# Altium footprint library pinhead.PCBLIB: 100 footprints (part 1 of 7)
Each footprint in its own frame and in the unit in brackets; x right, y up, seen from the top. Pads: shape width x height; smd on the part's side, far side on the other; paste and mask are expansions set on the pad; w line width, h text height; cw(c..) or ccw(c..) is an arc to the next point about the centre after c.
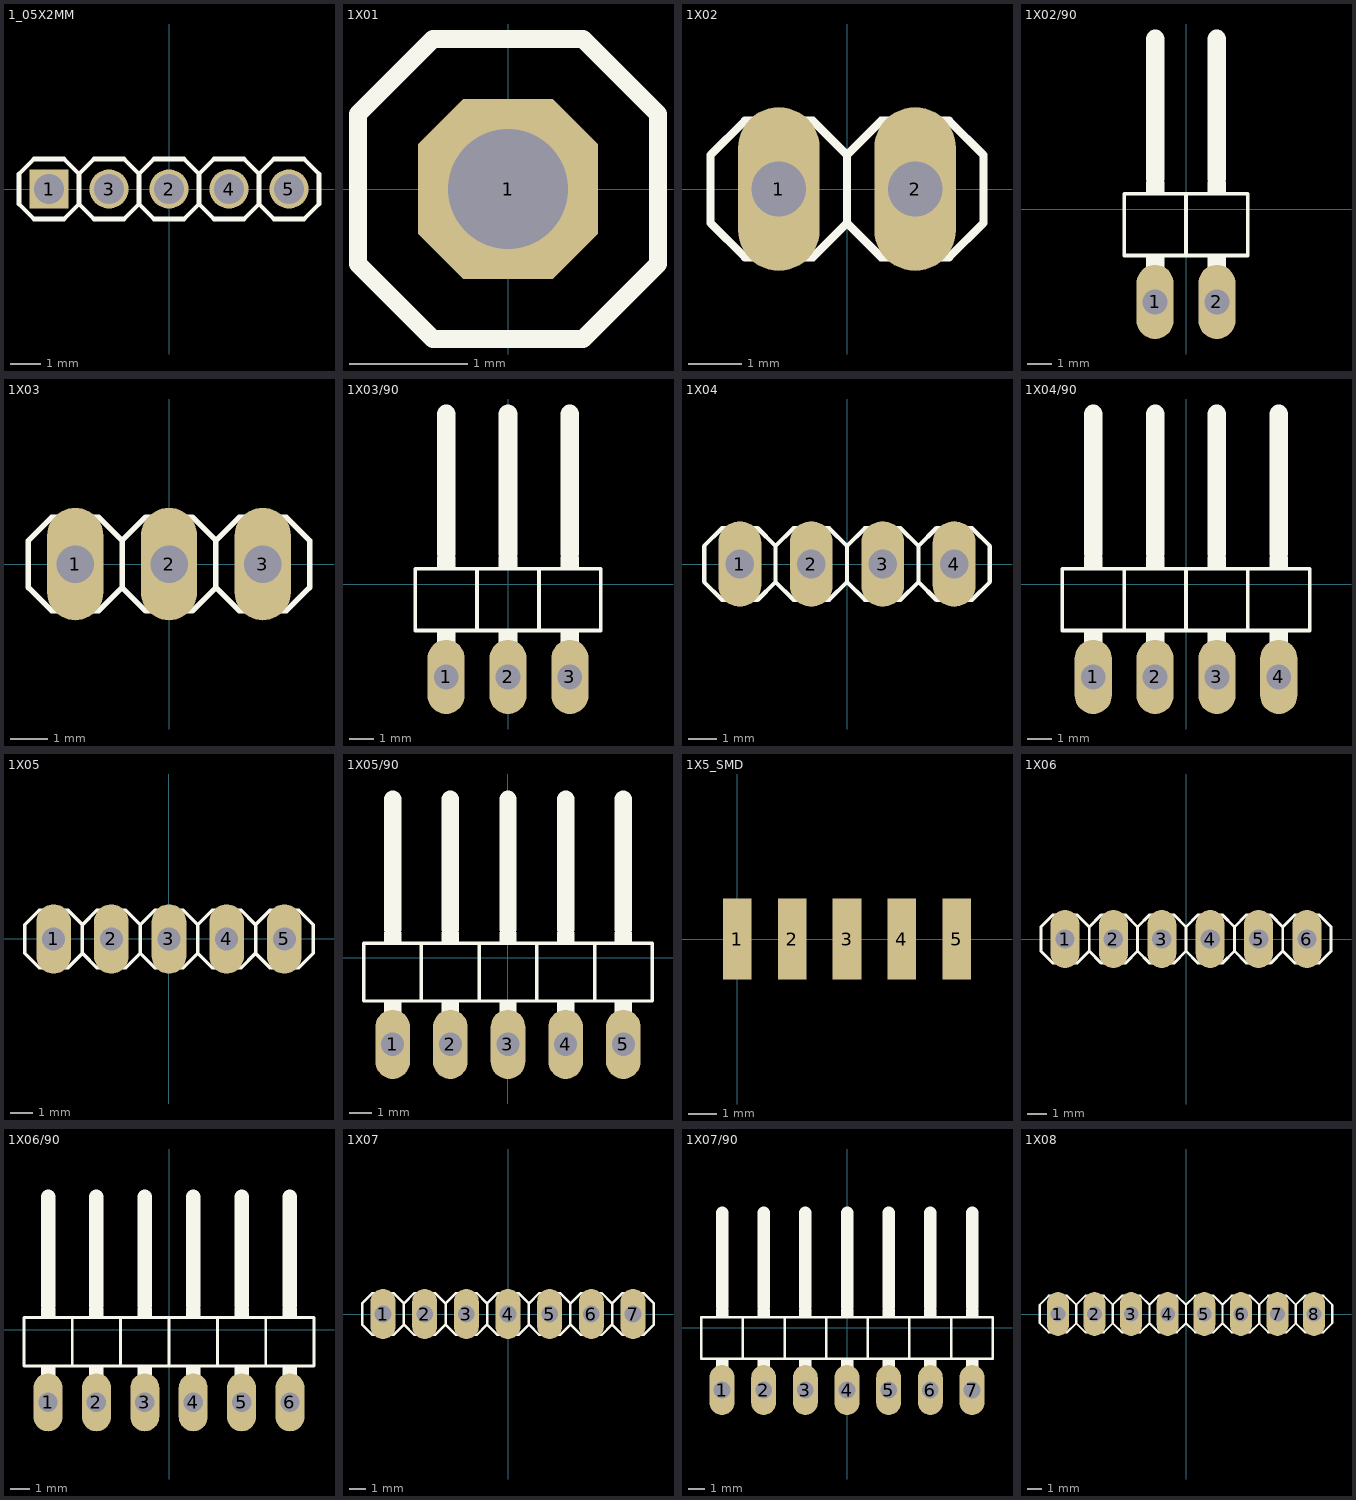
[diagram p0: the footprints below, top view; thin cyan lines are the x and y axes]

## 1_05X2MM [mil]
pads (5):
  rect 51.18x51.18 hole 40: 1(-157.48,0)
  round 51.18 hole 40: 2(0,0) 3(-78.74,0) 4(78.74,0) 5(157.48,0)
Top Overlay:
  lines w6: -118.11,-19.69 -137.8,-39.37 -177.17,-39.37 -196.85,-19.69 -196.85,19.69 -177.17,39.37 -137.8,39.37 -118.11,19.69 ; -118.11,-19.69 -98.43,-39.37 -59.06,-39.37 -39.37,-19.69 ; -118.11,-19.69 -118.11,19.69 ; -118.11,19.69 -98.43,39.37 -59.06,39.37 -39.37,19.69 ; -39.37,-19.69 -19.69,-39.37 19.69,-39.37 39.37,-19.69 ; -39.37,-19.69 -39.37,19.69 ; -39.37,19.69 -19.69,39.37 19.69,39.37 39.37,19.69 ; 39.37,-19.69 59.06,-39.37 98.43,-39.37 118.11,-19.69 ; 39.37,-19.69 39.37,19.69 ; 39.37,19.69 59.06,39.37 98.43,39.37 118.11,19.69 ; 118.11,-19.69 137.8,-39.37 177.17,-39.37 196.85,-19.69 196.85,19.69 177.17,39.37 137.8,39.37 118.11,19.69 ; 118.11,-19.69 118.11,19.69
Mechanical 16:
  rectangle: -167.48,-10 -147.48,10
  rectangle: -88.74,-10 -68.74,10
  rectangle: -10,-10 10,10
  rectangle: 68.74,-10 88.74,10
  rectangle: 147.48,-10 167.48,10

## 1X01 [mil]
pads (1):
  oct 60x60 hole 40: 1(0,0)
Top Overlay:
  lines w6: -50,-25 -25,-50 25,-50 50,-25 50,25 25,50 -25,50 -50,25 -50,-25
Mechanical 16:
  rectangle: -10,-10 10,10
3D body: height 336.22, standoff -118.11, extent -50,-49.01 50,49.02

## 1X02 [mil]
pads (2):
  oval 60x120 hole 40: 1(-50,0) 2(50,0)
Top Overlay:
  lines w6: 0,-25 25,-50 75,-50 100,-25 100,25 75,50 25,50 0,25 ; 0,-25 -25,-50 -75,-50 -100,-25 -100,25 -75,50 -25,50 0,25 ; 0,-25 0,25
Mechanical 16:
  rectangle: 40,-10 60,10
  rectangle: -60,-10 -40,10
3D body: height 336.22, standoff -118.11, extent -99.99,-49 100.01,49.02

## 1X02/90 [mil]
pads (2):
  oval 60x120 hole 40: 1(-50,-150) 2(50,-150)
Top Overlay:
  rectangle: 35,-115 65,-75
  rectangle: -65,-115 -35,-75
  rectangle: 35,25 65,45
  rectangle: -65,25 -35,45
  lines w6: 0,-75 100,-75 100,25 0,25 ; 0,-75 0,25 ; 0,-75 -100,-75 -100,25 0,25
  lines w30: -50,50 -50,275 ; 50,50 50,275

## 1X03 [mil]
pads (3):
  oval 60x120 hole 40: 1(-100,0) 2(0,0) 3(100,0)
Top Overlay:
  lines w6: -50,-25 -50,25 ; -50,-25 -75,-50 -125,-50 -150,-25 -150,25 -125,50 -75,50 -50,25 ; -50,-25 -25,-50 25,-50 50,-25 ; -50,25 -25,50 25,50 50,25 ; 50,-25 50,25 ; 50,-25 75,-50 125,-50 150,-25 150,25 125,50 75,50 50,25
Mechanical 16:
  rectangle: -10,-10 10,10
  rectangle: -110,-10 -90,10
  rectangle: 90,-10 110,10
3D body: height 336.22, standoff -118.11, extent -149.99,-49.01 50.01,49.02
3D body: height 336.22, standoff -118.11, extent 50,-49.01 150,49.02

## 1X03/90 [mil]
pads (3):
  oval 60x120 hole 40: 1(-100,-150) 2(0,-150) 3(100,-150)
Top Overlay:
  rectangle: -115,25 -85,45
  rectangle: -15,25 15,45
  rectangle: 85,25 115,45
  rectangle: -115,-115 -85,-75
  rectangle: -15,-115 15,-75
  rectangle: 85,-115 115,-75
  lines w6: -50,-75 -150,-75 -150,25 -50,25 ; -50,-75 -50,25 ; -50,-75 50,-75 ; -50,25 50,25 ; 50,-75 50,25 ; 50,-75 150,-75 150,25 50,25
  lines w30: -100,50 -100,275 ; 0,50 0,275 ; 100,50 100,275

## 1X04 [mil]
pads (4):
  oval 60x120 hole 40: 1(-150,0) 2(-50,0) 3(50,0) 4(150,0)
Top Overlay:
  lines w6: -100,-25 -75,-50 -25,-50 0,-25 ; -100,-25 -125,-50 -175,-50 -200,-25 -200,25 -175,50 -125,50 -100,25 ; -100,-25 -100,25 ; -100,25 -75,50 -25,50 0,25 ; 0,-25 0,25 ; 0,-25 25,-50 75,-50 100,-25 ; 0,25 25,50 75,50 100,25 ; 100,-25 125,-50 175,-50 200,-25 200,25 175,50 125,50 100,25 ; 100,-25 100,25
Mechanical 16:
  rectangle: 140,-10 160,10
  rectangle: -160,-10 -140,10
  rectangle: -60,-10 -40,10
  rectangle: 40,-10 60,10

## 1X04/90 [mil]
pads (4):
  oval 60x120 hole 40: 1(-150,-150) 2(-50,-150) 3(50,-150) 4(150,-150)
Top Overlay:
  rectangle: 135,-115 165,-75
  rectangle: 35,-115 65,-75
  rectangle: -65,-115 -35,-75
  rectangle: -165,-115 -135,-75
  rectangle: 135,25 165,45
  rectangle: 35,25 65,45
  rectangle: -65,25 -35,45
  rectangle: -165,25 -135,45
  lines w6: -100,-75 0,-75 ; -100,-75 -100,25 ; -100,-75 -200,-75 -200,25 -100,25 ; -100,25 0,25 ; 0,-75 100,-75 ; 0,-75 0,25 ; 0,25 100,25 ; 100,-75 200,-75 200,25 100,25 ; 100,-75 100,25
  lines w30: -150,50 -150,275 ; -50,50 -50,275 ; 50,50 50,275 ; 150,50 150,275
3D body: height 95.95, standoff -122.17, extent -200,-165 200,242.88

## 1X05 [mil]
pads (5):
  oval 60x120 hole 40: 1(-200,0) 2(-100,0) 3(0,0) 4(100,0) 5(200,0)
Top Overlay:
  lines w6: -150,-25 -125,-50 -75,-50 -50,-25 ; -150,-25 -175,-50 -225,-50 -250,-25 -250,25 -225,50 -175,50 -150,25 ; -150,-25 -150,25 ; -150,25 -125,50 -75,50 -50,25 ; -50,-25 -50,25 ; -50,-25 -25,-50 25,-50 50,-25 ; -50,25 -25,50 25,50 50,25 ; 50,-25 75,-50 125,-50 150,-25 ; 50,-25 50,25 ; 50,25 75,50 125,50 150,25 ; 150,-25 175,-50 225,-50 250,-25 250,25 225,50 175,50 150,25 ; 150,-25 150,25
Mechanical 16:
  rectangle: 190,-10 210,10
  rectangle: -210,-10 -190,10
  rectangle: -110,-10 -90,10
  rectangle: -10,-10 10,10
  rectangle: 90,-10 110,10
3D body: height 336.22, standoff -118.11, extent 150,-49.01 250,49.02
3D body: height 336.22, standoff -118.11, extent -49.99,-49.01 150.01,49.02
3D body: height 336.22, standoff -118.11, extent -249.99,-49.01 -49.99,49.02

## 1X05/90 [mil]
pads (5):
  oval 60x120 hole 40: 1(-200,-150) 2(-100,-150) 3(0,-150) 4(100,-150) 5(200,-150)
Top Overlay:
  rectangle: -215,25 -185,45
  rectangle: -115,25 -85,45
  rectangle: -15,25 15,45
  rectangle: 85,25 115,45
  rectangle: 185,25 215,45
  rectangle: -215,-115 -185,-75
  rectangle: -115,-115 -85,-75
  rectangle: -15,-115 15,-75
  rectangle: 85,-115 115,-75
  rectangle: 185,-115 215,-75
  lines w6: -150,-75 -250,-75 -250,25 -150,25 ; -150,-75 -150,25 ; -150,-75 -50,-75 ; -150,25 -50,25 ; -50,-75 -50,25 ; -50,-75 50,-75 ; -50,25 50,25 ; 50,-75 50,25 ; 50,-75 150,-75 ; 50,25 150,25 ; 150,-75 150,25 ; 150,-75 250,-75 250,25 150,25
  lines w30: -200,50 -200,275 ; -100,50 -100,275 ; 0,50 0,275 ; 100,50 100,275 ; 200,50 200,275

## 1X5_SMD [mm]
pads (5):
  rect 1x2.8 smd: 1(0,0) 2(1.905,0) 3(3.81,0) 4(5.715,0) 5(7.62,0)

## 1X06 [mil]
pads (6):
  oval 60x120 hole 40: 1(-250,0) 2(-150,0) 3(-50,0) 4(50,0) 5(150,0) 6(250,0)
Top Overlay:
  lines w6: -200,-25 -175,-50 -125,-50 -100,-25 ; -200,-25 -225,-50 -275,-50 -300,-25 -300,25 -275,50 -225,50 -200,25 ; -200,-25 -200,25 ; -200,25 -175,50 -125,50 -100,25 ; -100,-25 -100,25 ; -100,-25 -75,-50 -25,-50 0,-25 ; -100,25 -75,50 -25,50 0,25 ; 0,-25 25,-50 75,-50 100,-25 ; 0,-25 0,25 ; 0,25 25,50 75,50 100,25 ; 100,-25 125,-50 175,-50 200,-25 ; 100,-25 100,25 ; 100,25 125,50 175,50 200,25 ; 200,-25 225,-50 275,-50 300,-25 300,25 275,50 225,50 200,25 ; 200,-25 200,25
Mechanical 16:
  rectangle: 240,-10 260,10
  rectangle: -260,-10 -240,10
  rectangle: -160,-10 -140,10
  rectangle: -60,-10 -40,10
  rectangle: 40,-10 60,10
  rectangle: 140,-10 160,10
3D body: height 373.85, standoff -125.98, extent -300,-49.99 300,50.01

## 1X06/90 [mil]
pads (6):
  oval 60x120 hole 40: 1(-250,-150) 2(-150,-150) 3(-50,-150) 4(50,-150) 5(150,-150) 6(250,-150)
Top Overlay:
  rectangle: -265,25 -235,45
  rectangle: -165,25 -135,45
  rectangle: -65,25 -35,45
  rectangle: 35,25 65,45
  rectangle: 135,25 165,45
  rectangle: 235,25 265,45
  rectangle: -265,-115 -235,-75
  rectangle: -165,-115 -135,-75
  rectangle: -65,-115 -35,-75
  rectangle: 35,-115 65,-75
  rectangle: 135,-115 165,-75
  rectangle: 235,-115 265,-75
  lines w6: -200,-75 -300,-75 -300,25 -200,25 ; -200,-75 -200,25 ; -200,-75 -100,-75 ; -200,25 -100,25 ; -100,-75 -100,25 ; -100,-75 0,-75 ; -100,25 0,25 ; 0,-75 0,25 ; 0,-75 100,-75 ; 0,25 100,25 ; 100,-75 100,25 ; 100,-75 200,-75 ; 100,25 200,25 ; 200,-75 200,25 ; 200,-75 300,-75 300,25 200,25
  lines w30: -250,50 -250,275 ; -150,50 -150,275 ; -50,50 -50,275 ; 50,50 50,275 ; 150,50 150,275 ; 250,50 250,275

## 1X07 [mil]
pads (7):
  oval 60x120 hole 40: 1(-300,0) 2(-200,0) 3(-100,0) 4(0,0) 5(100,0) 6(200,0) 7(300,0)
Top Overlay:
  lines w6: -250,-25 -250,25 ; -250,-25 -275,-50 -325,-50 -350,-25 -350,25 -325,50 -275,50 -250,25 ; -250,-25 -225,-50 -175,-50 -150,-25 ; -250,25 -225,50 -175,50 -150,25 ; -150,-25 -125,-50 -75,-50 -50,-25 ; -150,-25 -150,25 ; -150,25 -125,50 -75,50 -50,25 ; -50,-25 -50,25 ; -50,-25 -25,-50 25,-50 50,-25 ; -50,25 -25,50 25,50 50,25 ; 50,-25 50,25 ; 50,-25 75,-50 125,-50 150,-25 ; 50,25 75,50 125,50 150,25 ; 150,-25 175,-50 225,-50 250,-25 ; 150,-25 150,25 ; 150,25 175,50 225,50 250,25 ; 250,-25 250,25 ; 250,-25 275,-50 325,-50 350,-25 350,25 325,50 275,50 250,25
Mechanical 16:
  rectangle: 190,-10 210,10
  rectangle: 90,-10 110,10
  rectangle: -10,-10 10,10
  rectangle: -110,-10 -90,10
  rectangle: -210,-10 -190,10
  rectangle: -310,-10 -290,10
  rectangle: 290,-10 310,10

## 1X07/90 [mil]
pads (7):
  oval 60x120 hole 40: 1(-300,-150) 2(-200,-150) 3(-100,-150) 4(0,-150) 5(100,-150) 6(200,-150) 7(300,-150)
Top Overlay:
  rectangle: -315,25 -285,45
  rectangle: -215,25 -185,45
  rectangle: -115,25 -85,45
  rectangle: -15,25 15,45
  rectangle: 85,25 115,45
  rectangle: 185,25 215,45
  rectangle: 285,25 315,45
  rectangle: -315,-115 -285,-75
  rectangle: -215,-115 -185,-75
  rectangle: -115,-115 -85,-75
  rectangle: -15,-115 15,-75
  rectangle: 85,-115 115,-75
  rectangle: 185,-115 215,-75
  rectangle: 285,-115 315,-75
  lines w6: -250,-75 -350,-75 -350,25 -250,25 ; -250,-75 -250,25 ; -250,-75 -150,-75 ; -250,25 -150,25 ; -150,-75 -150,25 ; -150,-75 -50,-75 ; -150,25 -50,25 ; -50,-75 -50,25 ; -50,-75 50,-75 ; -50,25 50,25 ; 50,-75 50,25 ; 50,-75 150,-75 ; 50,25 150,25 ; 150,-75 150,25 ; 150,-75 250,-75 ; 150,25 250,25 ; 250,-75 250,25 ; 250,-75 350,-75 350,25 250,25
  lines w30: -300,50 -300,275 ; -200,50 -200,275 ; -100,50 -100,275 ; 0,50 0,275 ; 100,50 100,275 ; 200,50 200,275 ; 300,50 300,275

## 1X08 [mil]
pads (8):
  oval 60x120 hole 40: 1(-350,0) 2(-250,0) 3(-150,0) 4(-50,0) 5(50,0) 6(150,0) 7(250,0) 8(350,0)
Top Overlay:
  lines w6: -300,-25 -300,25 ; -300,-25 -325,-50 -375,-50 -400,-25 -400,25 -375,50 -325,50 -300,25 ; -300,-25 -275,-50 -225,-50 -200,-25 ; -300,25 -275,50 -225,50 -200,25 ; -200,-25 -175,-50 -125,-50 -100,-25 ; -200,-25 -200,25 ; -200,25 -175,50 -125,50 -100,25 ; -100,-25 -100,25 ; -100,-25 -75,-50 -25,-50 0,-25 ; -100,25 -75,50 -25,50 0,25 ; 0,-25 0,25 ; 0,-25 25,-50 75,-50 100,-25 ; 0,25 25,50 75,50 100,25 ; 100,-25 125,-50 175,-50 200,-25 ; 100,-25 100,25 ; 100,25 125,50 175,50 200,25 ; 200,-25 200,25 ; 200,-25 225,-50 275,-50 300,-25 ; 200,25 225,50 275,50 300,25 ; 300,-25 300,25 ; 300,-25 325,-50 375,-50 400,-25 400,25 375,50 325,50 300,25
Mechanical 16:
  rectangle: 240,-10 260,10
  rectangle: 140,-10 160,10
  rectangle: 40,-10 60,10
  rectangle: -60,-10 -40,10
  rectangle: -160,-10 -140,10
  rectangle: -260,-10 -240,10
  rectangle: -360,-10 -340,10
  rectangle: 340,-10 360,10